# Altium footprint library Conn_Molex_0482580002_eec_0.PcbLib: 1 footprints
Each footprint in its own frame and in the unit in brackets; x right, y up, seen from the top. Pads: shape width x height; smd on the part's side, far side on the other; paste and mask are expansions set on the pad; w line width, h text height; cw(c..) or ccw(c..) is an arc to the next point about the centre after c.
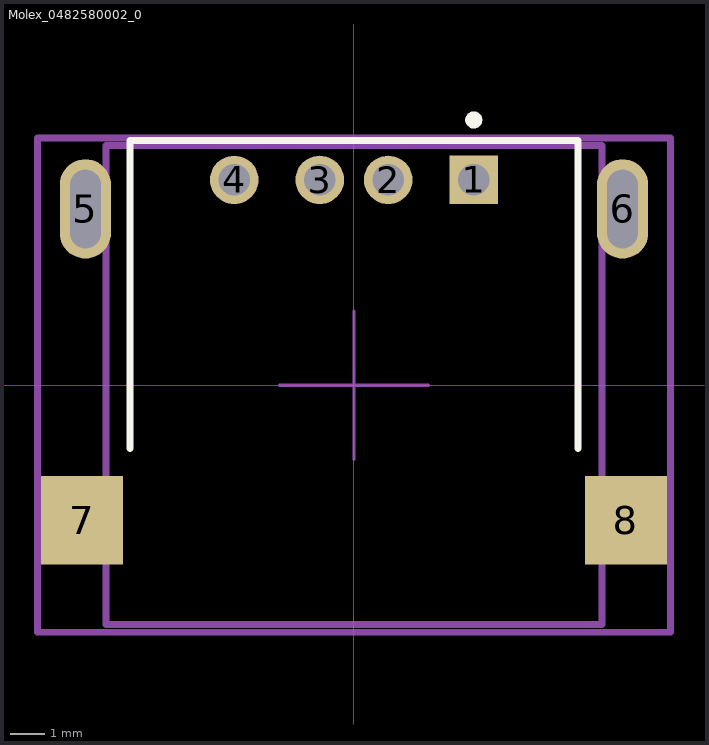
[diagram p0: the footprint, top view; thin cyan lines are the x and y axes]

## Molex_0482580002_0 [mm]
pads (8):
  rect 1.42x1.42 hole 0.92 paste-1000 mask+0: 1(3.5,6)
  round 1.42 hole 0.92 paste-1000 mask+0: 2(1,6) 3(-1,6) 4(-3.5,6)
  rrect100% 1.5x2.9 hole 2.3 slot 0.9 at 0 deg paste-1000 mask+0: 5(-7.85,5.15) 6(7.85,5.15)
  rect 2.4x2.6 smd paste+0 mask+0: 7(-7.95,-3.95) 8(7.95,-3.95)
Top Overlay:
  circle w0.25: c3.5,7.75 r0.125
  lines w0.2: -6.55,-1.85 -6.55,7.15 6.55,7.15 6.55,-1.85
Mechanical 10:
  lines w0.2: -9.25,-7.225 9.25,-7.225 9.25,7.225 -9.25,7.225 -9.25,-7.225
  text ".Designator" at 0,0.188 h1
Mechanical 12:
  lines w0.2: -7.25,-7 7.25,-7 7.25,7 -7.25,7 -7.25,-7
Mechanical 15:
  lines w0.1: -2.167,0 2.167,0 ; 0,-2.167 0,2.167
  lines w0.2: -9.25,-7.225 9.25,-7.225 9.25,7.225 -9.25,7.225 -9.25,-7.225
3D body "Conn_Molex_0482580002_eec.STEP": height 0.25, standoff 0, extent -9.25,-7.225 9.25,7.225